# EAGLE library part MRF24J40MA_TRANSEIVER_MODULE (library MRF24J40MA)
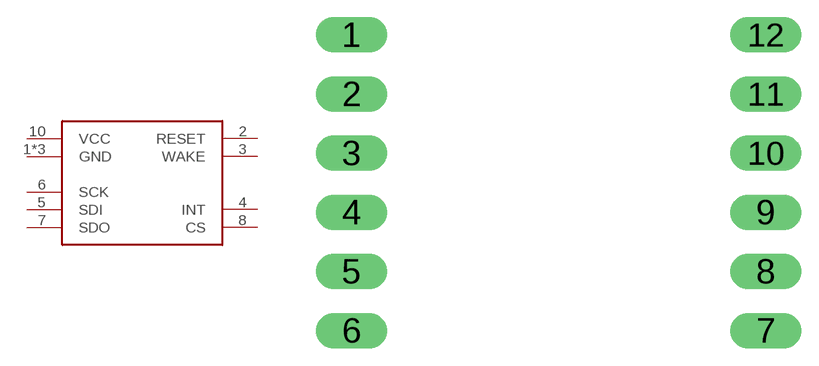
[diagram p0: symbol with the pads of PIN_HEADERS; footprint PIN_HEADERS]

Designator prefix -

## MRF24J40MA_TRANSEIVER_MODULE  [PIN_HEADERS]
1  GND  sup
2  RESET  in
3  WAKE  in
4  INT  out
5  SDI  in
6  SCK  in
7  SDO  out
8  CS  in
10  VCC  pwr
11  GND  sup
12  GND  sup

## Footprint PIN_HEADERS (pad centres in mm)
drill 1.016 long: 1 -8.89,6.35; 2 -8.89,3.81; 3 -8.89,1.27; 4 -8.89,-1.27; 5 -8.89,-3.81; 6 -8.89,-6.35; 7 8.89,-6.35; 8 8.89,-3.81; 9 8.89,-1.27; 10 8.89,1.27; 11 8.89,3.81; 12 8.89,6.35